# Altium footprint library PcbLib1.PcbLib: 25 footprints (part 2 of 2)
Each footprint in its own frame and in the unit in brackets; x right, y up, seen from the top. Pads: shape width x height; smd on the part's side, far side on the other; paste and mask are expansions set on the pad; w line width, h text height; cw(c..) or ccw(c..) is an arc to the next point about the centre after c.
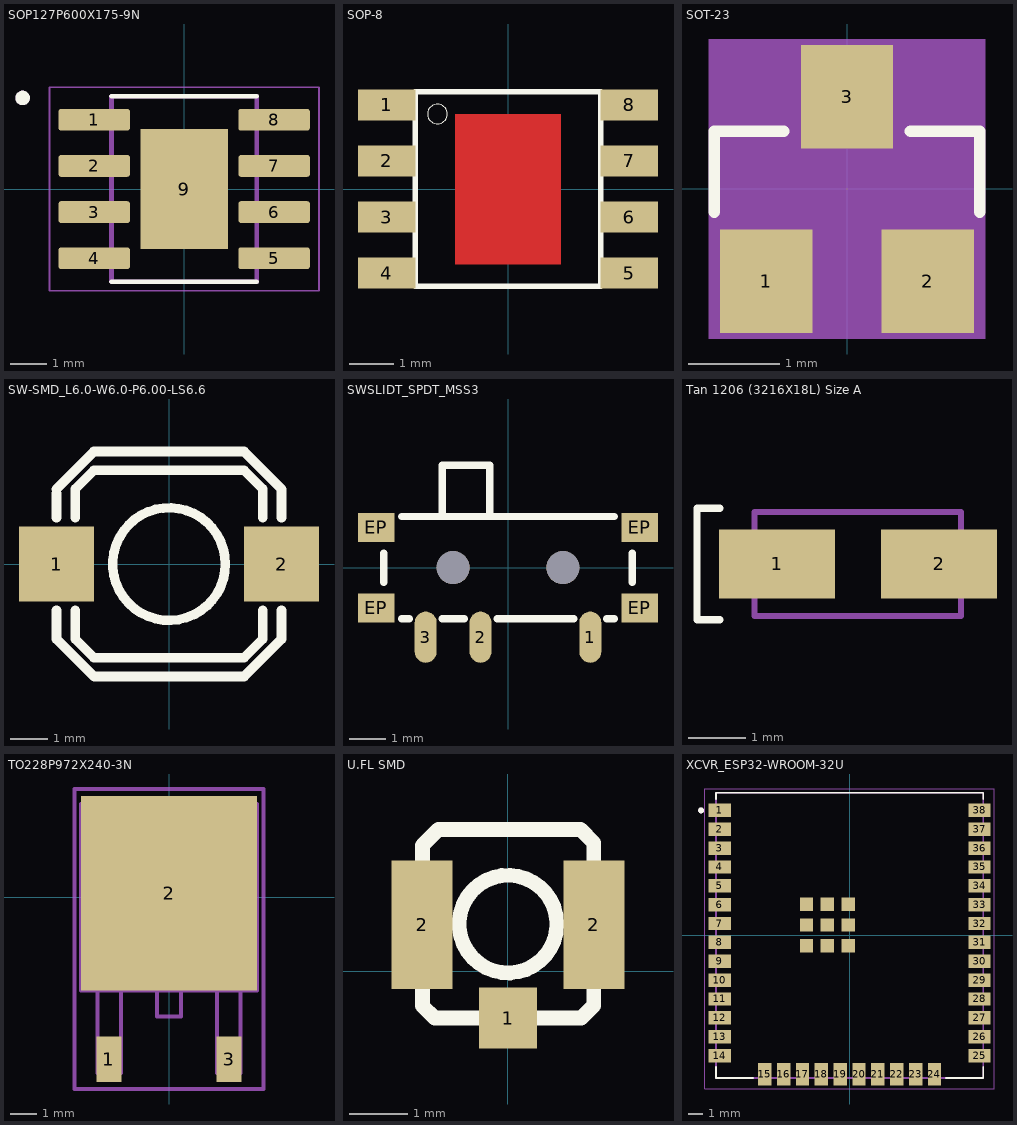
[diagram p1: the footprints below, top view; thin cyan lines are the x and y axes]

## SOP127P600X175-9N [mm]
height 1.75
pads (9):
  rrect25% 1.97x0.6 smd: 1(-2.475,1.905) 2(-2.475,0.635) 3(-2.475,-0.635) 4(-2.475,-1.905) 5(2.475,-1.905) 6(2.475,-0.635) 7(2.475,0.635) 8(2.475,1.905)
  rect 2.413x3.302 smd paste-3: 9(0,0)
Top Overlay:
  circle w0.2: c-4.445,2.505 r0.1
  lines w0.127: -2,-2.55 2,-2.55 ; -2,2.55 2,2.55
Top Paste:
  region: 0.645,-0.82 -0.645,-0.82 -0.645,0.82 0.645,0.82
Mechanical 13:
  circle w0.2: c-4.445,2.505 r0.1
  lines w0.127: -2,-2.55 2,-2.55 2,2.55 -2,2.55 -2,-2.55
Mechanical 15:
  lines w0.05: -3.71,-2.8 3.71,-2.8 3.71,2.8 -3.71,2.8 -3.71,-2.8
3D body "step_temp.STEP": height 1.75, standoff 0, extent -3,-2.45 3,2.45

## SOP-8 [mm]
height 1.35
pads (8):
  rect 1.3x0.7 smd: 1(-2.75,1.905) 2(-2.75,0.635) 3(-2.75,-0.635) 4(-2.75,-1.905) 5(2.75,-1.905) 6(2.75,-0.635) 7(2.75,0.635) 8(2.75,1.905)
Top Layer:
  region: 1.2,-1.7 -1.2,-1.7 -1.2,1.7 1.2,1.7
Top Overlay:
  circle w0: c-1.6,1.7 r0.224
  lines w0.127: -2.1,-2.2 -2.1,2.2 2.1,2.2 2.1,-2.2 -2.1,-2.2

## SOT-23 [mil]
height 53.15
pads (3):
  rect 40x45 smd: 1(-35,-40) 2(35,-40) 3(0,40)
Top Overlay:
  lines w5: -57.5,-10 -57.5,25 -27.5,25 ; 27.5,25 57.5,25 57.5,-10
Mechanical 13:
  region: -28,-51 -46,-51 -46,-28 -28,-28
  region: 46,-51.01 28.01,-51.01 28.01,-28 46,-28
  region: 9,28 -9,28 -9,51 9,51
Mechanical 15:
  region: 60,-65.06 -60.06,-65.06 -60.06,65 60,65
3D body "step_temp.STEP": height 55.12, standoff 0, extent -57.09,-51.18 57.09,51.18

## SW-SMD_L6.0-W6.0-P6.00-LS6.6 [mm]
pads (2):
  rect 2x2 smd paste+0 mask+0.051: 1(-3,0) 2(3,0)
Top Overlay:
  circle w0.254: c0.002,-0.002 r1.502
  lines w0.254: -3,-1.231 -3,-2.002 -1.999,-3 2.002,-3 3,-2.002 3,-1.231 ; -3,1.231 -3,1.892 ; -3,1.999 -2.002,3 -1.501,3 2.002,3 3,1.999 3,1.231 ; -2.5,-1.231 -2.5,-2 -2,-2.5 2,-2.5 2.5,-2 2.5,-1.231 ; -2.5,1.231 -2.5,2 -2,2.5 2,2.5 2.5,2 2.5,1.231

## SWSLIDT_SPDT_MSS3 [mm] "Switch, Slide, SPDT,"
height 16.38
pads (9):
  oval 0.6x1.4 smd: 1(2.25,-1.9) 2(-0.75,-1.9) 3(-2.25,-1.9)
  rect 1x0.8 smd: EP(-3.6,-1.1) EP(-3.6,1.1) EP(3.6,-1.1) EP(3.6,1.1)
  round 0.9 hole 0.9 unplated: ""(-1.5,0) ""(1.5,0)
Top Overlay:
  lines w0.2: -3.4,-0.4 -3.4,0.4 ; -2.9,-1.4 -2.7,-1.4 ; -2.9,1.4 2.9,1.4 ; -1.8,-1.4 -1.2,-1.4 ; -1.8,1.4 -1.8,2.8 -0.5,2.8 -0.5,1.4 ; -0.3,-1.4 1.8,-1.4 ; 2.7,-1.4 2.9,-1.4 ; 3.4,-0.4 3.4,0.4
3D body "User Library-MSS3_slide_switch_v2.step": height 1.4, standoff -0.5, extent -3.85,-2.24 3.85,2.76

## Tan 1206 (3216X18L) Size A [mil]
height 53.15
pads (2):
  rect 78.7x47.2 smd: 1(210,215) 2(320.22,215)
Top Overlay:
  lines w5: 171.11,177 155.61,177 155.61,253 171.11,253
Mechanical 13:
  lines w3.94: 194.68,179.57 335,179.57 335,250.43 194.68,250.43 194.68,179.57
3D body "SW3dPS-Solid Tantalum Chip Capacitor Size (A-3216-18).STEP": height 71, standoff 0, extent 193.13,179.5 336.38,250.5

## TO228P972X240-3N [mil]
pads (3):
  rect 37x67 smd: 1(-89,-240) 3(89,-240)
  rect 260x288 smd: 2(0,6)
Mechanical 13:
  lines w6: -18,-138 -18,-177 18,-177 18,-138 ; -130,-138 130,-138 130,138 -130,138 -130,-138 ; -106,-260 -106,-138 -71,-138 -71,-260 -106,-260 ; 71,-260 71,-138 106,-138 106,-260 71,-260
Mechanical 15:
  lines w6: -140,-284 140,-284 140,160 -140,160 -140,-284
3D body "step_temp.STEP": height 94.49, standoff 0, extent -127.95,-261.02 127.95,121.85

## U.FL SMD [mm] "U.FL Antenna-Design:Ali Hafizi"
height 1.35
pads (3):
  rect 1x1.05 smd: 1(0.002,-0.8)
  rect 1.05x2.2 smd: 2(-1.475,0.8) 2(1.475,0.8)
Top Overlay:
  circle w0.254: c0,0.813 r0.838
  lines w0.254: -1.47,-0.588 -1.47,2.163 -1.194,2.438 1.245,2.438 1.473,2.21 1.473,-0.584 1.257,-0.8 -1.257,-0.8 -1.47,-0.588
3D body "SW3dPS-UFL-R-SMD.STEP": height 1.25, standoff 0, extent -1.726,-0.763 1.674,2.337

## XCVR_ESP32-WROOM-32U [mm]
height 3.25
pads (59):
  rect 1.5x0.9 smd: 1(-8.75,8.41) 2(-8.75,7.14) 3(-8.75,5.87) 4(-8.75,4.6) 5(-8.75,3.33) 6(-8.75,2.06) 7(-8.75,0.79) 8(-8.75,-0.48) 9(-8.75,-1.75) 10(-8.75,-3.02) 11(-8.75,-4.29) 12(-8.75,-5.56) 13(-8.75,-6.83) 14(-8.75,-8.1) 25(8.75,-8.1) 26(8.75,-6.83) 27(8.75,-5.56) 28(8.75,-4.29) 29(8.75,-3.02) 30(8.75,-1.75) 31(8.75,-0.48) 32(8.75,0.79) 33(8.75,2.06) 34(8.75,3.33) 35(8.75,4.6) 36(8.75,5.87) 37(8.75,7.14) 38(8.75,8.41)
  rect 0.9x1.5 smd: 15(-5.715,-9.35) 16(-4.445,-9.35) 17(-3.175,-9.35) 18(-1.905,-9.35) 19(-0.635,-9.35) 20(0.635,-9.35) 21(1.905,-9.35) 22(3.175,-9.35) 23(4.445,-9.35) 24(5.715,-9.35)
  rect 0.9x0.9 smd: 39_1(-2.9,2.09) 39_2(-1.5,2.09) 39_3(-0.1,2.09) 39_4(-2.9,0.69) 39_5(-1.5,0.69) 39_6(-0.1,0.69) 39_7(-2.9,-0.71) 39_8(-1.5,-0.71) 39_9(-0.1,-0.71)
  round 0 all layers, no hole mask+0: 40_1(-2.2,2.09) 40_2(-0.8,2.09) 40_3(-2.9,1.39) 40_4(-1.5,1.39) 40_5(-0.1,1.39) 40_6(-2.2,0.69) 40_7(-0.8,0.69) 40_8(-2.9,-0.01) 40_9(-1.5,-0.01) 40_10(-0.1,-0.01) 40_11(-2.2,-0.71) 40_12(-0.8,-0.71)
Top Overlay:
  circle w0.2: c-10,8.41 r0.1
  lines w0.127: -9,-8.87 -9,-9.6 -6.485,-9.6 ; -9,9.18 -9,9.6 9,9.6 9,9.18 ; 6.485,-9.6 9,-9.6 9,-8.87
Mechanical 13:
  circle w0.2: c-10,8.41 r0.1
  lines w0.127: -9,-9.6 -9,9.6 9,9.6 9,-9.6 -9,-9.6
Mechanical 15:
  lines w0.05: -9.75,-10.35 -9.75,9.85 9.75,9.85 9.75,-10.35 -9.75,-10.35
3D body "step_temp.STEP": height 3.35, standoff 0, extent -9,-9.6 9,9.6